# Altium footprint library TSSOP-28(9.7x4.4).PcbLib: 1 footprints
Each footprint in its own frame and in the unit in brackets; x right, y up, seen from the top. Pads: shape width x height; smd on the part's side, far side on the other; paste and mask are expansions set on the pad; w line width, h text height; cw(c..) or ccw(c..) is an arc to the next point about the centre after c.
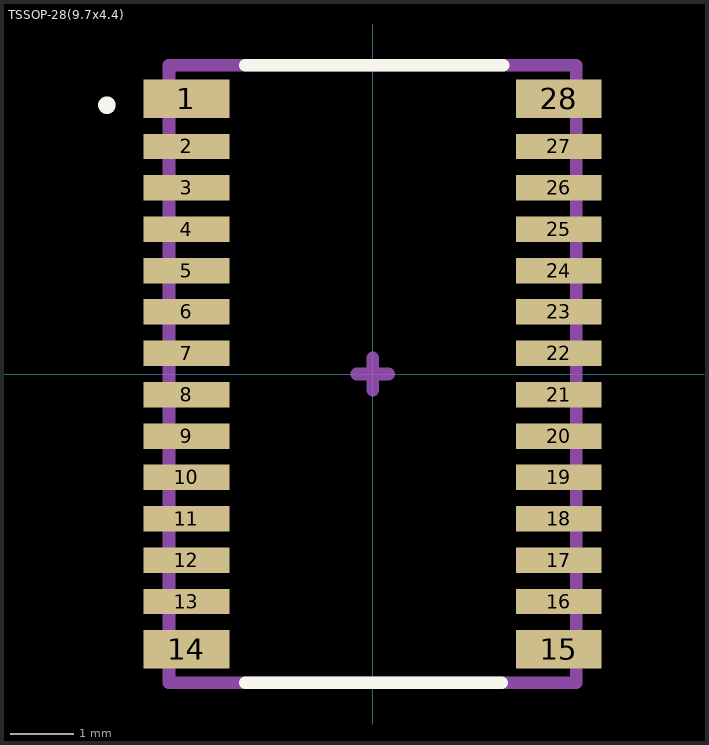
[diagram p0: the footprint, top view; thin cyan lines are the x and y axes]

## TSSOP-28(9.7x4.4) [mm]
pads (28):
  rect 1.35x0.6 smd mask+0.051: 1(-2.925,4.325) 14(-2.925,-4.325) 15(2.925,-4.325) 28(2.925,4.325)
  rect 1.35x0.4 smd mask+0.051: 2(-2.925,3.575) 3(-2.925,2.925) 4(-2.925,2.275) 5(-2.925,1.625) 6(-2.925,0.975) 7(-2.925,0.325) 8(-2.925,-0.325) 9(-2.925,-0.975) 10(-2.925,-1.625) 11(-2.925,-2.275) 12(-2.925,-2.925) 13(-2.925,-3.575) 16(2.925,-3.575) 17(2.925,-2.925) 18(2.925,-2.275) 19(2.925,-1.625) 20(2.925,-0.975) 21(2.925,-0.325) 22(2.925,0.325) 23(2.925,0.975) 24(2.925,1.625) 25(2.925,2.275) 26(2.925,2.925) 27(2.925,3.575)
Top Overlay:
  circle w0.254: c-4.175,4.225 r0.01
  lines w0.2: -2,-4.85 2.025,-4.85 ; -2,4.85 2.05,4.85
Mechanical 13:
  lines w0.2: -3.2,-4.85 -3.2,4.85 3.2,4.85 3.2,-4.85 -3.2,-4.85
Mechanical 15:
  lines w0.2: -0.25,0 0,0 ; 0,0 0,0.25 0,0 ; 0,0 0.25,0 0,0 ; 0,0 0,-0.25 0,0
3D body "TSSOP-28(9.7x4.4mm).STEP": height 0.96, standoff -0.14, extent -3.2,-4.85 3.2,4.85